# Altium footprint library KEYSTONE_7798.PcbLib: 1 footprints
Each footprint in its own frame and in the unit in brackets; x right, y up, seen from the top. Pads: shape width x height; smd on the part's side, far side on the other; paste and mask are expansions set on the pad; w line width, h text height; cw(c..) or ccw(c..) is an arc to the next point about the centre after c.
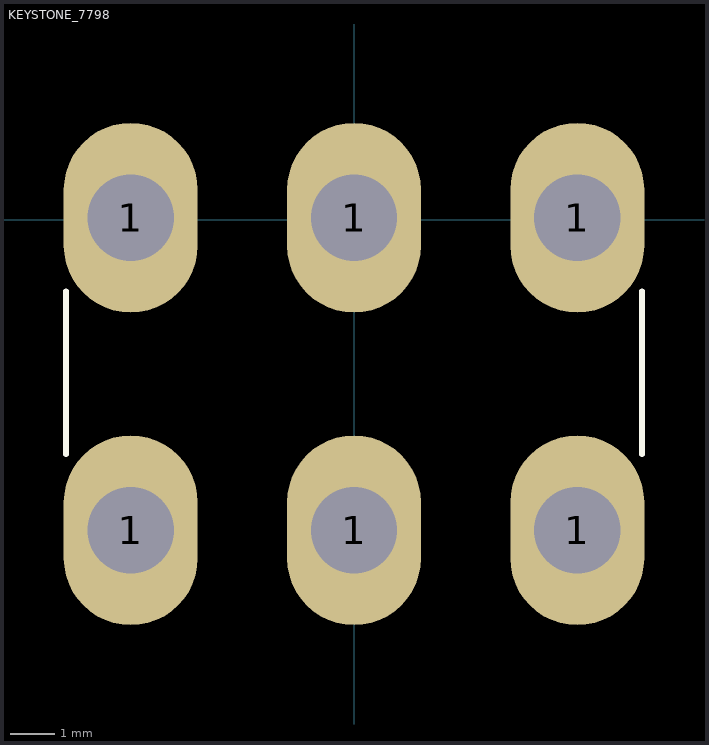
[diagram p0: the footprint, top view; thin cyan lines are the x and y axes]

## KEYSTONE_7798 [mm] "Screw Terminal"
pads (6):
  oval 3x4.25 hole 1.93: 1(-5,-6.95) 1(-5,0.05) 1(0,-6.95) 1(0,0.05) 1(5,-6.95) 1(5,0.05)
Top Overlay:
  lines w0.127: -6.45,-5.25 -6.45,-1.6 ; 6.45,-5.25 6.45,-1.6
3D body "keystone_7798.SLDPRT": height 6.35, standoff -5.48, extent -6.44,-7.887 6.44,0.95